# Altium schematic symbol library Varistors.SchLib: 5 symbols
Pins are listed as number, name and electrical type; pins without a type are passive.

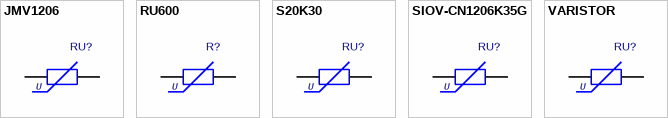
[diagram p0: symbols JMV1206 to VARISTOR]

## JMV1206
designator RU?  (value not drawn)
JMV1206; Value: {Value}
footprint VAR1206
pins: 1, 2
text: U

## RU600
designator R?  (value not drawn)
RU600; Value: {Value}
footprint RU400
pins: 1, 2
text: U

## S20K30
designator RU?  (value not drawn)
S20K30; Value: {Value}
footprint VARISTOR
pins: 1, 2
text: U

## SIOV-CN1206K35G
designator RU?  (value not drawn)
SIOV-CN1206K35G; Value: {Value}
footprint SMD_1206
pins: 1, 2
text: U

## VARISTOR
designator RU?  (value not drawn)
VARISTOR; Value: {Value}
footprint VARISTOR
pins: 1, 2
text: U